# Altium footprint library MC9S08SH16CTLR.PcbLib: 1 footprints
Each footprint in its own frame and in the unit in brackets; x right, y up, seen from the top. Pads: shape width x height; smd on the part's side, far side on the other; paste and mask are expansions set on the pad; w line width, h text height; cw(c..) or ccw(c..) is an arc to the next point about the centre after c.
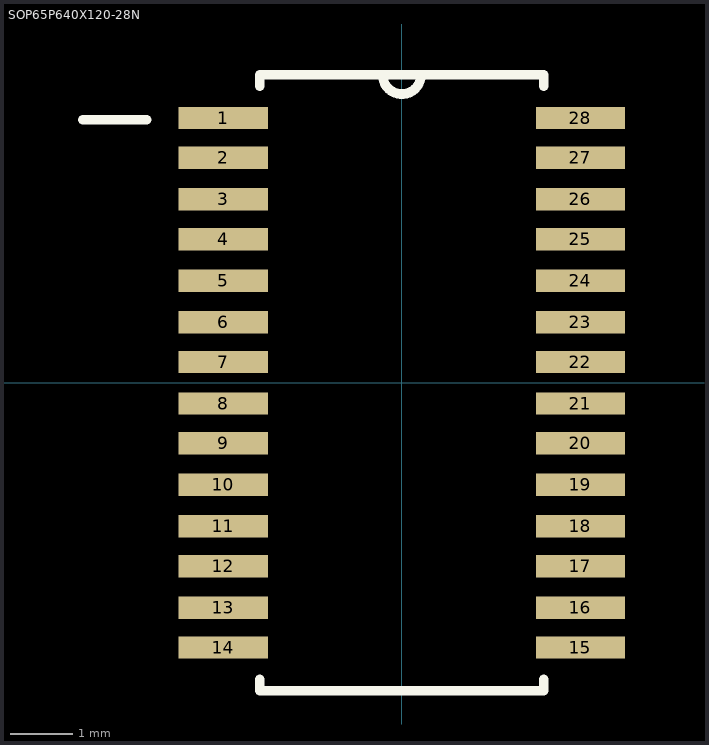
[diagram p0: the footprint, top view; thin cyan lines are the x and y axes]

## SOP65P640X120-28N [mil]
pads (28):
  rect 56x14 smd: 1(-112,166) 2(-112,141) 3(-112,115) 4(-112,90) 5(-112,64) 6(-112,38) 7(-112,13) 8(-112,-13) 9(-112,-38) 10(-112,-64) 11(-112,-90) 12(-112,-115) 13(-112,-141) 14(-112,-166) 15(112,-166) 16(112,-141) 17(112,-115) 18(112,-90) 19(112,-64) 20(112,-38) 21(112,-13) 22(112,13) 23(112,38) 24(112,64) 25(112,90) 26(112,115) 27(112,141) 28(112,166)
Top Overlay:
  lines w6: -200,165 -160,165 ; -89,-186 -89,-193 89,-193 89,-186 ; -89,186 -89,193 -12,193 ; 89,186 89,193 12,193 ; -12,193 ccw(c0,193) 12,193 ; -12,193 12,193
3D body "TSSOP-28.STEP": height 38.3, standoff -0.64, extent -125.98,-190.94 125.99,190.94